# Altium integrated library Passive.IntLib: 1327 symbols (part 4 of 10)
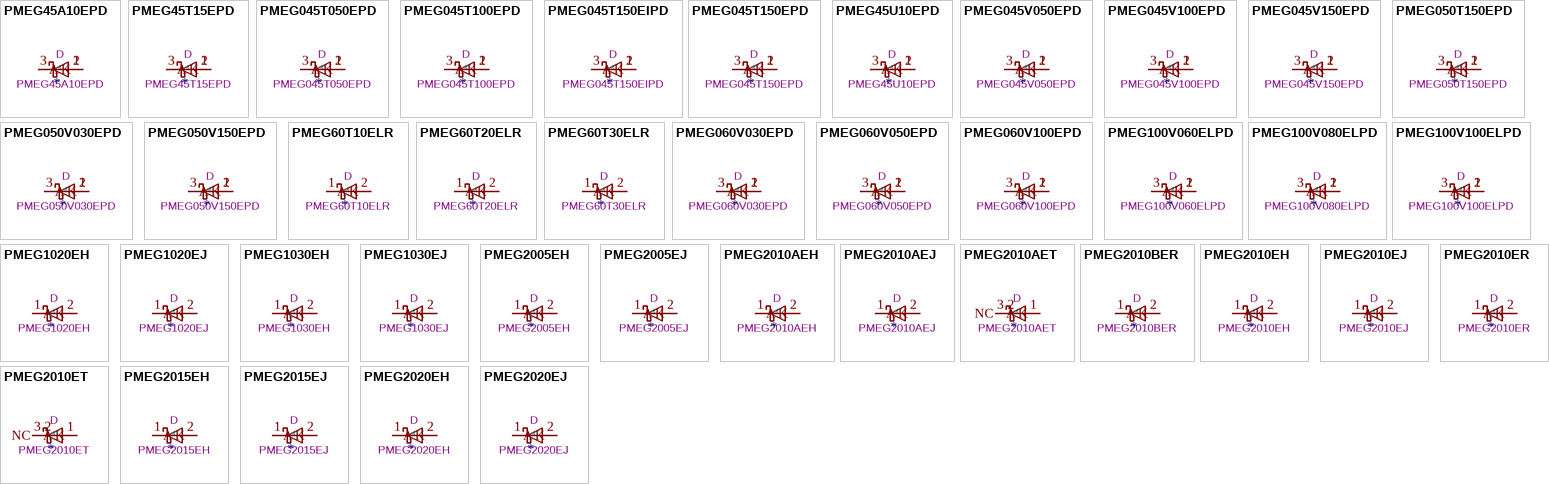
[diagram p44: symbols PMEG45A10EPD to PMEG2020EJ]

## PMEG100V100ELPD
designator *  value PMEG100V100ELPD  Reference: D
100V, 10A low leakage current MEGA Schottky barrier rectifier, SOT-1289; ki_keywords: ir diode; ki_fp_filters: Nexperia*CFP15*SOT?1289*; Footprint: Package_TO_SOT_SMD:Nexperia_CFP15_SOT-1289; Datasheet: https://assets.nexperia.com/documents/data-sheet/PMEG100V100ELPD.pdf; Description_: 100V, 10A low leakage current MEGA Schottky barrier rectifier, SOT-1289
pins: 1 A, 2 A, 3 K

## PMEG1020EH
designator *  value PMEG1020EH  Reference: D
10V, 2A ultra low Vf MEGA Schottky barrier rectifier, SOD-123F; ki_keywords: forward voltage diode; ki_fp_filters: D*SOD?123F*; Footprint: Diode_SMD:D_SOD-123F; Datasheet: https://assets.nexperia.com/documents/data-sheet/PMEG1020EH_EJ.pdf; Description_: 10V, 2A ultra low Vf MEGA Schottky barrier rectifier, SOD-123F
pins: 1 K, 2 A

## PMEG1020EJ
designator *  value PMEG1020EJ  Reference: D
10V, 2A ultra low Vf MEGA Schottky barrier rectifier, SOD-323F; ki_keywords: forward voltage diode; ki_fp_filters: D*SOD?323F*; Footprint: Diode_SMD:D_SOD-323F; Datasheet: https://assets.nexperia.com/documents/data-sheet/PMEG1020EH_EJ.pdf; Description_: 10V, 2A ultra low Vf MEGA Schottky barrier rectifier, SOD-323F
pins: 1 K, 2 A

## PMEG1030EH
designator *  value PMEG1030EH  Reference: D
10V, 3A ultra low Vf MEGA Schottky barrier rectifier, SOD-123F; ki_keywords: forward voltage diode; ki_fp_filters: D*SOD?123F*; Footprint: Diode_SMD:D_SOD-123F; Datasheet: https://assets.nexperia.com/documents/data-sheet/PMEG1030EH_EJ.pdf; Description_: 10V, 3A ultra low Vf MEGA Schottky barrier rectifier, SOD-123F
pins: 1 K, 2 A

## PMEG1030EJ
designator *  value PMEG1030EJ  Reference: D
10V, 3A ultra low Vf MEGA Schottky barrier rectifier, SOD-323F; ki_keywords: forward voltage diode; ki_fp_filters: D*SOD?323F*; Footprint: Diode_SMD:D_SOD-323F; Datasheet: https://assets.nexperia.com/documents/data-sheet/PMEG1030EH_EJ.pdf; Description_: 10V, 3A ultra low Vf MEGA Schottky barrier rectifier, SOD-323F
pins: 1 K, 2 A

## PMEG2005EH
designator *  value PMEG2005EH  Reference: D
20V, 500mA very low Vf MEGA Schottky barrier rectifier, SOD-123F; ki_keywords: forward voltage diode; ki_fp_filters: D*SOD?123F*; Footprint: Diode_SMD:D_SOD-123F; Datasheet: https://assets.nexperia.com/documents/data-sheet/PMEGXX05EH_EJ_SER.pdf; Description_: 20V, 500mA very low Vf MEGA Schottky barrier rectifier, SOD-123F
pins: 1 K, 2 A

## PMEG2005EJ
designator *  value PMEG2005EJ  Reference: D
20V, 500mA very low Vf MEGA Schottky barrier rectifier, SOD-323F; ki_keywords: forward voltage diode; ki_fp_filters: D*SOD?323F*; Footprint: Diode_SMD:D_SOD-323F; Datasheet: https://assets.nexperia.com/documents/data-sheet/PMEGXX05EH_EJ_SER.pdf; Description_: 20V, 500mA very low Vf MEGA Schottky barrier rectifier, SOD-323F
pins: 1 K, 2 A

## PMEG2010AEH
designator *  value PMEG2010AEH  Reference: D
20V, 1A very low Vf MEGA Schottky barrier rectifier, SOD-123F; ki_keywords: forward voltage diode; ki_fp_filters: D*SOD?123F*; Footprint: Diode_SMD:D_SOD-123F; Datasheet: https://assets.nexperia.com/documents/data-sheet/PMEG2010AEH_PMEG2010AET.pdf; Description_: 20V, 1A very low Vf MEGA Schottky barrier rectifier, SOD-123F
pins: 1 K, 2 A

## PMEG2010AEJ
designator *  value PMEG2010AEJ  Reference: D
20V, 1A very low Vf MEGA Schottky barrier rectifier, SOD-323F; ki_keywords: forward voltage diode; ki_fp_filters: D*SOD?323F*; Footprint: Diode_SMD:D_SOD-323F; Datasheet: https://assets.nexperia.com/documents/data-sheet/PMEG2010AEJ.pdf; Description_: 20V, 1A very low Vf MEGA Schottky barrier rectifier, SOD-323F
pins: 1 K, 2 A

## PMEG2010AET
designator *  value PMEG2010AET  Reference: D
20V, 1A very low Vf MEGA Schottky barrier rectifier, SOT-23; ki_keywords: forward voltage diode; ki_fp_filters: SOT?23*; Footprint: Package_TO_SOT_SMD:SOT-23; Datasheet: https://assets.nexperia.com/documents/data-sheet/PMEG2010AEH_PMEG2010AET.pdf; Description_: 20V, 1A very low Vf MEGA Schottky barrier rectifier, SOT-23
pins: 1 A, 2 NC, 3 K

## PMEG2010BER
designator *  value PMEG2010BER  Reference: D
20V, 1A low Vf MEGA Schottky barrier rectifier, SOD-123W; ki_keywords: forward voltage diode; ki_fp_filters: Nexperia*CFP3*SOD?123W*; Footprint: Diode_SMD:Nexperia_CFP3_SOD-123W; Datasheet: https://assets.nexperia.com/documents/data-sheet/PMEG2010BER.pdf; Description_: 20V, 1A low Vf MEGA Schottky barrier rectifier, SOD-123W
pins: 1 K, 2 A

## PMEG2010EH
designator *  value PMEG2010EH  Reference: D
20V, 1A very low Vf MEGA Schottky barrier rectifier, SOD-123F; ki_keywords: forward voltage diode; ki_fp_filters: D*SOD?123F*; Footprint: Diode_SMD:D_SOD-123F; Datasheet: https://assets.nexperia.com/documents/data-sheet/PMEG2010EH_EJ_ET.pdf; Description_: 20V, 1A very low Vf MEGA Schottky barrier rectifier, SOD-123F
pins: 1 K, 2 A

## PMEG2010EJ
designator *  value PMEG2010EJ  Reference: D
20V, 1A very low Vf MEGA Schottky barrier rectifier, SOD-323F; ki_keywords: forward voltage diode; ki_fp_filters: D*SOD?323F*; Footprint: Diode_SMD:D_SOD-323F; Datasheet: https://assets.nexperia.com/documents/data-sheet/PMEG2010EH_EJ_ET.pdf; Description_: 20V, 1A very low Vf MEGA Schottky barrier rectifier, SOD-323F
pins: 1 K, 2 A

## PMEG2010ER
designator *  value PMEG2010ER  Reference: D
20V, 1A low Vf MEGA Schottky barrier rectifier, SOD-123W; ki_keywords: forward voltage diode; ki_fp_filters: Nexperia*CFP3*SOD?123W*; Footprint: Diode_SMD:Nexperia_CFP3_SOD-123W; Datasheet: https://assets.nexperia.com/documents/data-sheet/PMEG2010ER.pdf; Description_: 20V, 1A low Vf MEGA Schottky barrier rectifier, SOD-123W
pins: 1 K, 2 A

## PMEG2010ET
designator *  value PMEG2010ET  Reference: D
20V, 1A very low Vf MEGA Schottky barrier rectifier, SOT-23; ki_keywords: forward voltage diode; ki_fp_filters: SOT?23*; Footprint: Package_TO_SOT_SMD:SOT-23; Datasheet: https://assets.nexperia.com/documents/data-sheet/PMEG2010EH_EJ_ET.pdf; Description_: 20V, 1A very low Vf MEGA Schottky barrier rectifier, SOT-23
pins: 1 A, 2 NC, 3 K

## PMEG2015EH
designator *  value PMEG2015EH  Reference: D
20V, 1.5A very low Vf MEGA Schottky barrier rectifier, SOD-123F; ki_keywords: forward voltage diode; ki_fp_filters: D*SOD?123F*; Footprint: Diode_SMD:D_SOD-123F; Datasheet: https://assets.nexperia.com/documents/data-sheet/PMEG2015EH_EJ.pdf; Description_: 20V, 1.5A very low Vf MEGA Schottky barrier rectifier, SOD-123F
pins: 1 K, 2 A

## PMEG2015EJ
designator *  value PMEG2015EJ  Reference: D
20V, 1.5A very low Vf MEGA Schottky barrier rectifier, SOD-323F; ki_keywords: forward voltage diode; ki_fp_filters: D*SOD?323F*; Footprint: Diode_SMD:D_SOD-323F; Datasheet: https://assets.nexperia.com/documents/data-sheet/PMEG2015EH_EJ.pdf; Description_: 20V, 1.5A very low Vf MEGA Schottky barrier rectifier, SOD-323F
pins: 1 K, 2 A

## PMEG2020EH
designator *  value PMEG2020EH  Reference: D
20V, 2A very low Vf MEGA Schottky barrier rectifier, SOD-123F; ki_keywords: forward voltage diode; ki_fp_filters: D*SOD?123F*; Footprint: Diode_SMD:D_SOD-123F; Datasheet: https://assets.nexperia.com/documents/data-sheet/PMEG2020EH_EJ.pdf; Description_: 20V, 2A very low Vf MEGA Schottky barrier rectifier, SOD-123F
pins: 1 K, 2 A

## PMEG2020EJ
designator *  value PMEG2020EJ  Reference: D
20V, 2A very low Vf MEGA Schottky barrier rectifier, SOD-323F; ki_keywords: forward voltage diode; ki_fp_filters: D*SOD?323F*; Footprint: Diode_SMD:D_SOD-323F; Datasheet: https://assets.nexperia.com/documents/data-sheet/PMEG2020EH_EJ.pdf; Description_: 20V, 2A very low Vf MEGA Schottky barrier rectifier, SOD-323F
pins: 1 K, 2 A

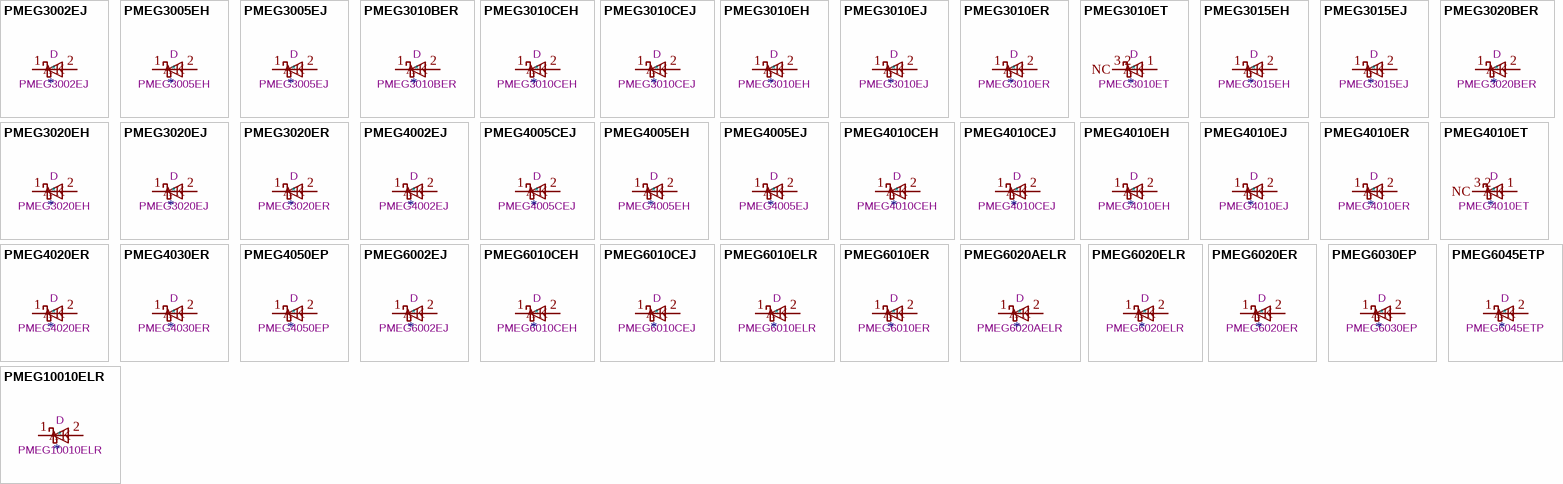
[diagram p12: symbols PMEG3002EJ to PMEG10010ELR]

## PMEG3002EJ
designator *  value PMEG3002EJ  Reference: D
30V, 200mA low Vf MEGA Schottky barrier rectifier, SOD-323F; ki_keywords: forward voltage diode; ki_fp_filters: D*SOD?323F*; Footprint: Diode_SMD:D_SOD-323F; Datasheet: https://assets.nexperia.com/documents/data-sheet/PMEG3002EJ.pdf; Description_: 30V, 200mA low Vf MEGA Schottky barrier rectifier, SOD-323F
pins: 1 K, 2 A

## PMEG3005EH
designator *  value PMEG3005EH  Reference: D
30V, 500mA very low Vf MEGA Schottky barrier rectifier, SOD-123F; ki_keywords: forward voltage diode; ki_fp_filters: D*SOD?123F*; Footprint: Diode_SMD:D_SOD-123F; Datasheet: https://assets.nexperia.com/documents/data-sheet/PMEGXX05EH_EJ_SER.pdf; Description_: 30V, 500mA very low Vf MEGA Schottky barrier rectifier, SOD-123F
pins: 1 K, 2 A

## PMEG3005EJ
designator *  value PMEG3005EJ  Reference: D
30V, 500mA very low Vf MEGA Schottky barrier rectifier, SOD-323F; ki_keywords: forward voltage diode; ki_fp_filters: D*SOD?323F*; Footprint: Diode_SMD:D_SOD-323F; Datasheet: https://assets.nexperia.com/documents/data-sheet/PMEGXX05EH_EJ_SER.pdf; Description_: 30V, 500mA very low Vf MEGA Schottky barrier rectifier, SOD-323F
pins: 1 K, 2 A

## PMEG3010BER
designator *  value PMEG3010BER  Reference: D
30V, 1A low Vf MEGA Schottky barrier rectifier, SOD-123W; ki_keywords: forward voltage diode; ki_fp_filters: Nexperia*CFP3*SOD?123W*; Footprint: Diode_SMD:Nexperia_CFP3_SOD-123W; Datasheet: https://assets.nexperia.com/documents/data-sheet/PMEG3010BER.pdf; Description_: 30V, 1A low Vf MEGA Schottky barrier rectifier, SOD-123W
pins: 1 K, 2 A

## PMEG3010CEH
designator *  value PMEG3010CEH  Reference: D
30V, 1A very low Vf MEGA Schottky barrier rectifier, SOD-123F; ki_keywords: forward voltage diode; ki_fp_filters: D*SOD?123F*; Footprint: Diode_SMD:D_SOD-123F; Datasheet: https://assets.nexperia.com/documents/data-sheet/PMEG3010CEH_PMEG3010CEJ.pdf; Description_: 30V, 1A very low Vf MEGA Schottky barrier rectifier, SOD-123F
pins: 1 K, 2 A

## PMEG3010CEJ
designator *  value PMEG3010CEJ  Reference: D
30V, 1A very low Vf MEGA Schottky barrier rectifier, SOD-323F; ki_keywords: forward voltage diode; ki_fp_filters: D*SOD?323F*; Footprint: Diode_SMD:D_SOD-323F; Datasheet: https://assets.nexperia.com/documents/data-sheet/PMEG3010CEH_PMEG3010CEJ.pdf; Description_: 30V, 1A very low Vf MEGA Schottky barrier rectifier, SOD-323F
pins: 1 K, 2 A

## PMEG3010EH
designator *  value PMEG3010EH  Reference: D
30V, 1A very low Vf MEGA Schottky barrier rectifier, SOD-123F; ki_keywords: forward voltage diode; ki_fp_filters: D*SOD?123F*; Footprint: Diode_SMD:D_SOD-123F; Datasheet: https://assets.nexperia.com/documents/data-sheet/PMEG3010EH_EJ_ET.pdf; Description_: 30V, 1A very low Vf MEGA Schottky barrier rectifier, SOD-123F
pins: 1 K, 2 A

## PMEG3010EJ
designator *  value PMEG3010EJ  Reference: D
30V, 1A very low Vf MEGA Schottky barrier rectifier, SOD-323F; ki_keywords: forward voltage diode; ki_fp_filters: D*SOD?323F*; Footprint: Diode_SMD:D_SOD-323F; Datasheet: https://assets.nexperia.com/documents/data-sheet/PMEG3010EH_EJ_ET.pdf; Description_: 30V, 1A very low Vf MEGA Schottky barrier rectifier, SOD-323F
pins: 1 K, 2 A

## PMEG3010ER
designator *  value PMEG3010ER  Reference: D
30V, 1A low Vf MEGA Schottky barrier rectifier, SOD-123W; ki_keywords: forward voltage diode; ki_fp_filters: Nexperia*CFP3*SOD?123W*; Footprint: Diode_SMD:Nexperia_CFP3_SOD-123W; Datasheet: https://assets.nexperia.com/documents/data-sheet/PMEG3010ER.pdf; Description_: 30V, 1A low Vf MEGA Schottky barrier rectifier, SOD-123W
pins: 1 K, 2 A

## PMEG3010ET
designator *  value PMEG3010ET  Reference: D
30V, 1A very low Vf MEGA Schottky barrier rectifier, SOT-23; ki_keywords: forward voltage diode; ki_fp_filters: SOT?23*; Footprint: Package_TO_SOT_SMD:SOT-23; Datasheet: https://assets.nexperia.com/documents/data-sheet/PMEG3010EH_EJ_ET.pdf; Description_: 30V, 1A very low Vf MEGA Schottky barrier rectifier, SOT-23
pins: 1 A, 2 NC, 3 K

## PMEG3015EH
designator *  value PMEG3015EH  Reference: D
30V, 1.5A ultra low Vf MEGA Schottky barrier rectifier, SOD-123F; ki_keywords: forward voltage diode; ki_fp_filters: D*SOD?123F*; Footprint: Diode_SMD:D_SOD-123F; Datasheet: https://assets.nexperia.com/documents/data-sheet/PMEG3015EH_EJ.pdf; Description_: 30V, 1.5A ultra low Vf MEGA Schottky barrier rectifier, SOD-123F
pins: 1 K, 2 A

## PMEG3015EJ
designator *  value PMEG3015EJ  Reference: D
30V, 1.5A ultra low Vf MEGA Schottky barrier rectifier, SOD-323F; ki_keywords: forward voltage diode; ki_fp_filters: D*SOD?323F*; Footprint: Diode_SMD:D_SOD-323F; Datasheet: https://assets.nexperia.com/documents/data-sheet/PMEG3015EH_EJ.pdf; Description_: 30V, 1.5A ultra low Vf MEGA Schottky barrier rectifier, SOD-323F
pins: 1 K, 2 A

## PMEG3020BER
designator *  value PMEG3020BER  Reference: D
30V, 2A low Vf MEGA Schottky barrier rectifier, SOD-123W; ki_keywords: forward voltage diode; ki_fp_filters: Nexperia*CFP3*SOD?123W*; Footprint: Diode_SMD:Nexperia_CFP3_SOD-123W; Datasheet: https://assets.nexperia.com/documents/data-sheet/PMEG3020BER.pdf; Description_: 30V, 2A low Vf MEGA Schottky barrier rectifier, SOD-123W
pins: 1 K, 2 A

## PMEG3020EH
designator *  value PMEG3020EH  Reference: D
30V, 2A ultra low Vf MEGA Schottky barrier rectifier, SOD-123F; ki_keywords: forward voltage diode; ki_fp_filters: D*SOD?123F*; Footprint: Diode_SMD:D_SOD-123F; Datasheet: https://assets.nexperia.com/documents/data-sheet/PMEG3020EH_EJ.pdf; Description_: 30V, 2A ultra low Vf MEGA Schottky barrier rectifier, SOD-123F
pins: 1 K, 2 A

## PMEG3020EJ
designator *  value PMEG3020EJ  Reference: D
30V, 2A ultra low Vf MEGA Schottky barrier rectifier, SOD-323F; ki_keywords: forward voltage diode; ki_fp_filters: D*SOD?323F*; Footprint: Diode_SMD:D_SOD-323F; Datasheet: https://assets.nexperia.com/documents/data-sheet/PMEG3020EH_EJ.pdf; Description_: 30V, 2A ultra low Vf MEGA Schottky barrier rectifier, SOD-323F
pins: 1 K, 2 A

## PMEG3020ER
designator *  value PMEG3020ER  Reference: D
30V, 2A low Vf MEGA Schottky barrier rectifier, SOD-123W; ki_keywords: forward voltage diode; ki_fp_filters: Nexperia*CFP3*SOD?123W*; Footprint: Diode_SMD:Nexperia_CFP3_SOD-123W; Datasheet: https://assets.nexperia.com/documents/data-sheet/PMEG3020ER.pdf; Description_: 30V, 2A low Vf MEGA Schottky barrier rectifier, SOD-123W
pins: 1 K, 2 A

## PMEG4002EJ
designator *  value PMEG4002EJ  Reference: D
40V, 200mA low Vf MEGA Schottky barrier rectifier, SOD-323F; ki_keywords: forward voltage diode; ki_fp_filters: D*SOD?323F*; Footprint: Diode_SMD:D_SOD-323F; Datasheet: https://assets.nexperia.com/documents/data-sheet/PMEG4002EJ.pdf; Description_: 40V, 200mA low Vf MEGA Schottky barrier rectifier, SOD-323F
pins: 1 K, 2 A

## PMEG4005CEJ
designator *  value PMEG4005CEJ  Reference: D
40V, 500mA low Vf MEGA Schottky barrier rectifier, SOD-323F; ki_keywords: forward voltage diode; ki_fp_filters: D*SOD?323F*; Footprint: Diode_SMD:D_SOD-323F; Datasheet: https://assets.nexperia.com/documents/data-sheet/PMEG4005CEJ.pdf; Description_: 40V, 500mA low Vf MEGA Schottky barrier rectifier, SOD-323F
pins: 1 K, 2 A

## PMEG4005EH
designator *  value PMEG4005EH  Reference: D
40V, 500mA very low Vf MEGA Schottky barrier rectifier, SOD-123F; ki_keywords: forward voltage diode; ki_fp_filters: D*SOD?123F*; Footprint: Diode_SMD:D_SOD-123F; Datasheet: https://assets.nexperia.com/documents/data-sheet/PMEGXX05EH_EJ_SER.pdf; Description_: 40V, 500mA very low Vf MEGA Schottky barrier rectifier, SOD-123F
pins: 1 K, 2 A

## PMEG4005EJ
designator *  value PMEG4005EJ  Reference: D
40V, 500mA very low Vf MEGA Schottky barrier rectifier, SOD-323F; ki_keywords: forward voltage diode; ki_fp_filters: D*SOD?323F*; Footprint: Diode_SMD:D_SOD-323F; Datasheet: https://assets.nexperia.com/documents/data-sheet/PMEGXX05EH_EJ_SER.pdf; Description_: 40V, 500mA very low Vf MEGA Schottky barrier rectifier, SOD-323F
pins: 1 K, 2 A

## PMEG4010CEH
designator *  value PMEG4010CEH  Reference: D
40V, 1A very low Vf MEGA Schottky barrier rectifier, SOD-123F; ki_keywords: forward voltage diode; ki_fp_filters: D*SOD?123F*; Footprint: Diode_SMD:D_SOD-123F; Datasheet: https://assets.nexperia.com/documents/data-sheet/PMEG4010CEH_PMEG4010CEJ.pdf; Description_: 40V, 1A very low Vf MEGA Schottky barrier rectifier, SOD-123F
pins: 1 K, 2 A

## PMEG4010CEJ
designator *  value PMEG4010CEJ  Reference: D
40V, 1A very low Vf MEGA Schottky barrier rectifier, SOD-323F; ki_keywords: forward voltage diode; ki_fp_filters: D*SOD?323F*; Footprint: Diode_SMD:D_SOD-323F; Datasheet: https://assets.nexperia.com/documents/data-sheet/PMEG4010CEH_PMEG4010CEJ.pdf; Description_: 40V, 1A very low Vf MEGA Schottky barrier rectifier, SOD-323F
pins: 1 K, 2 A

## PMEG4010EH
designator *  value PMEG4010EH  Reference: D
40V, 1A very low Vf MEGA Schottky barrier rectifier, SOD-123F; ki_keywords: forward voltage diode; ki_fp_filters: D*SOD?123F*; Footprint: Diode_SMD:D_SOD-123F; Datasheet: https://assets.nexperia.com/documents/data-sheet/PMEG4010EH_EJ_ET.pdf; Description_: 40V, 1A very low Vf MEGA Schottky barrier rectifier, SOD-123F
pins: 1 K, 2 A

## PMEG4010EJ
designator *  value PMEG4010EJ  Reference: D
40V, 1A very low Vf MEGA Schottky barrier rectifier, SOD-323F; ki_keywords: forward voltage diode; ki_fp_filters: D*SOD?323F*; Footprint: Diode_SMD:D_SOD-323F; Datasheet: https://assets.nexperia.com/documents/data-sheet/PMEG4010EH_EJ_ET.pdf; Description_: 40V, 1A very low Vf MEGA Schottky barrier rectifier, SOD-323F
pins: 1 K, 2 A

## PMEG4010ER
designator *  value PMEG4010ER  Reference: D
40V, 1A low Vf MEGA Schottky barrier rectifier, SOD-123W; ki_keywords: forward voltage diode; ki_fp_filters: Nexperia*CFP3*SOD?123W*; Footprint: Diode_SMD:Nexperia_CFP3_SOD-123W; Datasheet: https://assets.nexperia.com/documents/data-sheet/PMEG4010ER.pdf; Description_: 40V, 1A low Vf MEGA Schottky barrier rectifier, SOD-123W
pins: 1 K, 2 A

## PMEG4010ET
designator *  value PMEG4010ET  Reference: D
40V, 1A very low Vf MEGA Schottky barrier rectifier, SOT-23; ki_keywords: forward voltage diode; ki_fp_filters: SOT?23*; Footprint: Package_TO_SOT_SMD:SOT-23; Datasheet: https://assets.nexperia.com/documents/data-sheet/PMEG4010EH_EJ_ET.pdf; Description_: 40V, 1A very low Vf MEGA Schottky barrier rectifier, SOT-23
pins: 1 A, 2 NC, 3 K

## PMEG4020ER
designator *  value PMEG4020ER  Reference: D
40V, 2A low Vf MEGA Schottky barrier rectifier, SOD-123W; ki_keywords: forward voltage diode; ki_fp_filters: Nexperia*CFP3*SOD?123W*; Footprint: Diode_SMD:Nexperia_CFP3_SOD-123W; Datasheet: https://assets.nexperia.com/documents/data-sheet/PMEG4020ER.pdf; Description_: 40V, 2A low Vf MEGA Schottky barrier rectifier, SOD-123W
pins: 1 K, 2 A

## PMEG4030ER
designator *  value PMEG4030ER  Reference: D
40V, 3A low Vf MEGA Schottky barrier rectifier, SOD-123W; ki_keywords: forward voltage diode; ki_fp_filters: Nexperia*CFP3*SOD?123W*; Footprint: Diode_SMD:Nexperia_CFP3_SOD-123W; Datasheet: https://assets.nexperia.com/documents/data-sheet/PMEG4030ER.pdf; Description_: 40V, 3A low Vf MEGA Schottky barrier rectifier, SOD-123W
pins: 1 K, 2 A

## PMEG4050EP
designator *  value PMEG4050EP  Reference: D
40V, 5A low Vf Schottky barrier rectifier, SOD-128; ki_keywords: forward voltage diode; ki_fp_filters: D*SOD?128*; Footprint: Diode_SMD:D_SOD-128; Datasheet: https://assets.nexperia.com/documents/data-sheet/PMEG4050EP.pdf; Description_: 40V, 5A low Vf Schottky barrier rectifier, SOD-128
pins: 1 K, 2 A

## PMEG6002EJ
designator *  value PMEG6002EJ  Reference: D
60V, 200mA very low Vf MEGA Schottky barrier rectifier, SOD-323F; ki_keywords: forward voltage diode; ki_fp_filters: D*SOD?323F*; Footprint: Diode_SMD:D_SOD-323F; Datasheet: https://assets.nexperia.com/documents/data-sheet/PMEG6002EJ.pdf; Description_: 60V, 200mA very low Vf MEGA Schottky barrier rectifier, SOD-323F
pins: 1 K, 2 A

## PMEG6010CEH
designator *  value PMEG6010CEH  Reference: D
60V, 1A very low Vf MEGA Schottky barrier rectifier, SOD-123F; ki_keywords: forward voltage diode; ki_fp_filters: D*SOD?123F*; Footprint: Diode_SMD:D_SOD-123F; Datasheet: https://assets.nexperia.com/documents/data-sheet/PMEG6010CEH_PMEG6010CEJ.pdf; Description_: 60V, 1A very low Vf MEGA Schottky barrier rectifier, SOD-123F
pins: 1 K, 2 A

## PMEG6010CEJ
designator *  value PMEG6010CEJ  Reference: D
60V, 1A very low Vf MEGA Schottky barrier rectifier, SOD-323F; ki_keywords: forward voltage diode; ki_fp_filters: D*SOD?323F*; Footprint: Diode_SMD:D_SOD-323F; Datasheet: https://assets.nexperia.com/documents/data-sheet/PMEG6010CEH_PMEG6010CEJ.pdf; Description_: 60V, 1A very low Vf MEGA Schottky barrier rectifier, SOD-323F
pins: 1 K, 2 A

## PMEG6010ELR
designator *  value PMEG6010ELR  Reference: D
60V, 1A low leakage current MEGA Schottky barrier rectifier, SOD-123W; ki_keywords: ir diode; ki_fp_filters: Nexperia*CFP3*SOD?123W*; Footprint: Diode_SMD:Nexperia_CFP3_SOD-123W; Datasheet: https://assets.nexperia.com/documents/data-sheet/PMEG6010ELR.pdf; Description_: 60V, 1A low leakage current MEGA Schottky barrier rectifier, SOD-123W
pins: 1 K, 2 A

## PMEG6010ER
designator *  value PMEG6010ER  Reference: D
60V, 1A low Vf MEGA Schottky barrier rectifier, SOD-123W; ki_keywords: forward voltage diode; ki_fp_filters: Nexperia*CFP3*SOD?123W*; Footprint: Diode_SMD:Nexperia_CFP3_SOD-123W; Datasheet: https://assets.nexperia.com/documents/data-sheet/PMEG6010ER.pdf; Description_: 60V, 1A low Vf MEGA Schottky barrier rectifier, SOD-123W
pins: 1 K, 2 A

## PMEG6020AELR
designator *  value PMEG6020AELR  Reference: D
60V, 2A low leakage current MEGA Schottky barrier rectifier, SOD-123W; ki_keywords: ir diode; ki_fp_filters: Nexperia*CFP3*SOD?123W*; Footprint: Diode_SMD:Nexperia_CFP3_SOD-123W; Datasheet: https://assets.nexperia.com/documents/data-sheet/PMEG6020AELR.pdf; Description_: 60V, 2A low leakage current MEGA Schottky barrier rectifier, SOD-123W
pins: 1 K, 2 A

## PMEG6020ELR
designator *  value PMEG6020ELR  Reference: D
60V, 2A low leakage current MEGA Schottky barrier rectifier, SOD-123W; ki_keywords: ir diode; ki_fp_filters: Nexperia*CFP3*SOD?123W*; Footprint: Diode_SMD:Nexperia_CFP3_SOD-123W; Datasheet: https://assets.nexperia.com/documents/data-sheet/PMEG6020ELR.pdf; Description_: 60V, 2A low leakage current MEGA Schottky barrier rectifier, SOD-123W
pins: 1 K, 2 A

## PMEG6020ER
designator *  value PMEG6020ER  Reference: D
60V, 2A low Vf MEGA Schottky barrier rectifier, SOD-123W; ki_keywords: forward voltage diode; ki_fp_filters: Nexperia*CFP3*SOD?123W*; Footprint: Diode_SMD:Nexperia_CFP3_SOD-123W; Datasheet: https://assets.nexperia.com/documents/data-sheet/PMEG6020ER.pdf; Description_: 60V, 2A low Vf MEGA Schottky barrier rectifier, SOD-123W
pins: 1 K, 2 A

## PMEG6030EP
designator *  value PMEG6030EP  Reference: D
60V, 3A low Vf MEGA Schottky barrier rectifier, SOD-128; ki_keywords: forward voltage diode; ki_fp_filters: D*SOD?128*; Footprint: Diode_SMD:D_SOD-128; Datasheet: https://assets.nexperia.com/documents/data-sheet/PMEG6030EP.pdf; Description_: 60V, 3A low Vf MEGA Schottky barrier rectifier, SOD-128
pins: 1 K, 2 A

## PMEG6045ETP
designator *  value PMEG6045ETP  Reference: D
60V, 4.5A High-Temperature Schottky barrier rectifier, SOD-128; ki_keywords: forward voltage diode; ki_fp_filters: D*SOD?128*; Footprint: Diode_SMD:D_SOD-128; Datasheet: https://assets.nexperia.com/documents/data-sheet/PMEG6045ETP.pdf; Description_: 60V, 4.5A High-Temperature Schottky barrier rectifier, SOD-128
pins: 1 K, 2 A

## PMEG10010ELR
designator *  value PMEG10010ELR  Reference: D
100V, 1A low leakage current MEGA Schottky barrier rectifier, SOD-123W; ki_keywords: ir diode; ki_fp_filters: Nexperia*CFP3*SOD?123W*; Footprint: Diode_SMD:Nexperia_CFP3_SOD-123W; Datasheet: https://assets.nexperia.com/documents/data-sheet/PMEG10010ELR.pdf; Description_: 100V, 1A low leakage current MEGA Schottky barrier rectifier, SOD-123W
pins: 1 K, 2 A

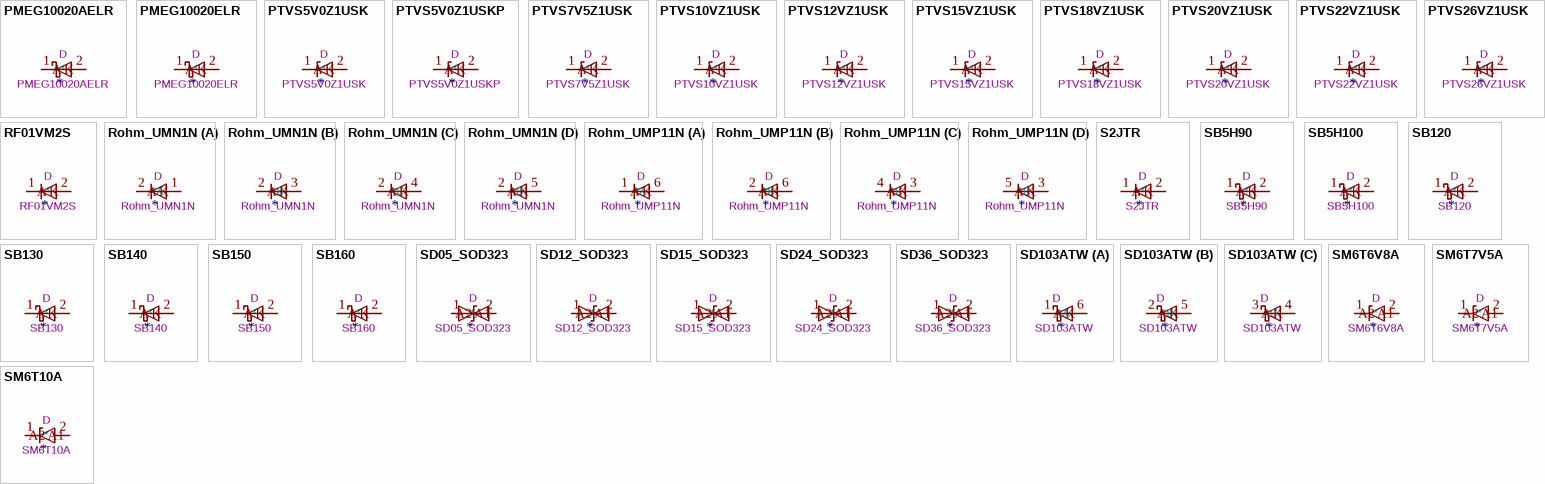
[diagram p13: symbols PMEG10020AELR to SM6T10A]

## PMEG10020AELR
designator *  value PMEG10020AELR  Reference: D
100V, 2A low leakage current MEGA Schottky barrier rectifier, SOD-123W; ki_keywords: ir diode; ki_fp_filters: Nexperia*CFP3*SOD?123W*; Footprint: Diode_SMD:Nexperia_CFP3_SOD-123W; Datasheet: https://assets.nexperia.com/documents/data-sheet/PMEG10020AELR.pdf; Description_: 100V, 2A low leakage current MEGA Schottky barrier rectifier, SOD-123W
pins: 1 K, 2 A

## PMEG10020ELR
designator *  value PMEG10020ELR  Reference: D
100V, 2A low leakage current MEGA Schottky barrier rectifier, SOD-123W; ki_keywords: ir diode; ki_fp_filters: Nexperia*CFP3*SOD?123W*; Footprint: Diode_SMD:Nexperia_CFP3_SOD-123W; Datasheet: https://assets.nexperia.com/documents/data-sheet/PMEG10020ELR.pdf; Description_: 100V, 2A low leakage current MEGA Schottky barrier rectifier, SOD-123W
pins: 1 K, 2 A

## PTVS5V0Z1USK
designator *  value PTVS5V0Z1USK  Reference: D
5V, 1200W TVS unidirectional diode, DSN1608-2; ki_keywords: TVS diode; ki_fp_filters: *DSN1608?2*; Footprint: Diode_SMD:Nexperia_DSN1608-2_1.6x0.8mm; Datasheet: https://assets.nexperia.com/documents/data-sheet/PTVS5V0Z1USK.pdf; Description_: 5V, 1200W TVS unidirectional diode, DSN1608-2
pins: 1 K, 2 A

## PTVS5V0Z1USKP
designator *  value PTVS5V0Z1USKP  Reference: D
5V, 2000W TVS unidirectional diode, DSN1608-2; ki_keywords: TVS diode; ki_fp_filters: *DSN1608?2*; Footprint: Diode_SMD:Nexperia_DSN1608-2_1.6x0.8mm; Datasheet: https://assets.nexperia.com/documents/data-sheet/PTVS5V0Z1USKP.pdf; Description_: 5V, 2000W TVS unidirectional diode, DSN1608-2
pins: 1 K, 2 A

## PTVS7V5Z1USK
designator *  value PTVS7V5Z1USK  Reference: D
7.5V, 2200W TVS unidirectional diode, DSN1608-2; ki_keywords: TVS diode; ki_fp_filters: *DSN1608?2*; Footprint: Diode_SMD:Nexperia_DSN1608-2_1.6x0.8mm; Datasheet: https://assets.nexperia.com/documents/data-sheet/PTVS7V5Z1USK.pdf; Description_: 7.5V, 2200W TVS unidirectional diode, DSN1608-2
pins: 1 K, 2 A

## PTVS10VZ1USK
designator *  value PTVS10VZ1USK  Reference: D
10V, 2000W TVS unidirectional diode, DSN1608-2; ki_keywords: TVS diode; ki_fp_filters: *DSN1608?2*; Footprint: Diode_SMD:Nexperia_DSN1608-2_1.6x0.8mm; Datasheet: https://assets.nexperia.com/documents/data-sheet/PTVS10VZ1USK.pdf; Description_: 10V, 2000W TVS unidirectional diode, DSN1608-2
pins: 1 K, 2 A

## PTVS12VZ1USK
designator *  value PTVS12VZ1USK  Reference: D
12V, 1900W TVS unidirectional diode, DSN1608-2; ki_keywords: TVS diode; ki_fp_filters: *DSN1608?2*; Footprint: Diode_SMD:Nexperia_DSN1608-2_1.6x0.8mm; Datasheet: https://assets.nexperia.com/documents/data-sheet/PTVS12VZ1USK.pdf; Description_: 12V, 1900W TVS unidirectional diode, DSN1608-2
pins: 1 K, 2 A

## PTVS15VZ1USK
designator *  value PTVS15VZ1USK  Reference: D
15V, 1900W TVS unidirectional diode, DSN1608-2; ki_keywords: TVS diode; ki_fp_filters: *DSN1608?2*; Footprint: Diode_SMD:Nexperia_DSN1608-2_1.6x0.8mm; Datasheet: https://assets.nexperia.com/documents/data-sheet/PTVS15VZ1USK.pdf; Description_: 15V, 1900W TVS unidirectional diode, DSN1608-2
pins: 1 K, 2 A

## PTVS18VZ1USK
designator *  value PTVS18VZ1USK  Reference: D
18V, 1800W TVS unidirectional diode, DSN1608-2; ki_keywords: TVS diode; ki_fp_filters: *DSN1608?2*; Footprint: Diode_SMD:Nexperia_DSN1608-2_1.6x0.8mm; Datasheet: https://assets.nexperia.com/documents/data-sheet/PTVS18VZ1USK.pdf; Description_: 18V, 1800W TVS unidirectional diode, DSN1608-2
pins: 1 K, 2 A

## PTVS20VZ1USK
designator *  value PTVS20VZ1USK  Reference: D
20V, 2000W TVS unidirectional diode, DSN1608-2; ki_keywords: TVS diode; ki_fp_filters: *DSN1608?2*; Footprint: Diode_SMD:Nexperia_DSN1608-2_1.6x0.8mm; Datasheet: https://assets.nexperia.com/documents/data-sheet/PTVS20VZ1USK.pdf; Description_: 20V, 2000W TVS unidirectional diode, DSN1608-2
pins: 1 K, 2 A

## PTVS22VZ1USK
designator *  value PTVS22VZ1USK  Reference: D
22V, 1900W TVS unidirectional diode, DSN1608-2; ki_keywords: TVS diode; ki_fp_filters: *DSN1608?2*; Footprint: Diode_SMD:Nexperia_DSN1608-2_1.6x0.8mm; Datasheet: https://assets.nexperia.com/documents/data-sheet/PTVS22VZ1USK.pdf; Description_: 22V, 1900W TVS unidirectional diode, DSN1608-2
pins: 1 K, 2 A

## PTVS26VZ1USK
designator *  value PTVS26VZ1USK  Reference: D
26V, 1850W TVS unidirectional diode, DSN1608-2; ki_keywords: TVS diode; ki_fp_filters: *DSN1608?2*; Footprint: Diode_SMD:Nexperia_DSN1608-2_1.6x0.8mm; Datasheet: https://assets.nexperia.com/documents/data-sheet/PTVS26VZ1USK.pdf; Description_: 26V, 1850W TVS unidirectional diode, DSN1608-2
pins: 1 K, 2 A

## RF01VM2S
designator *  value RF01VM2S  Reference: D
250 V, 100 mA, Super Fast Recovery Diode, SOD-323; Sim.Pins: 1=K 2=A; ki_fp_filters: D*SOD?323*; Footprint: Diode_SMD:D_SOD-323; Datasheet: https://fscdn.rohm.com/en/products/databook/datasheet/discrete/diode/fast_recovery/rf01vm2s.pdf; Description_: 250 V, 100 mA, Super Fast Recovery Diode, SOD-323; Sim.Device: D; ki_keywords: diode
pins: 1 K, 2 A

## Rohm_UMN1N
designator *  value Rohm_UMN1N  Reference: D
High-speed switching diodes 2 pair Com K; ki_keywords: diode; ki_fp_filters: SOT?353*; Footprint: Package_TO_SOT_SMD:SOT-353_SC-70-5; Datasheet: https://fscdn.rohm.com/en/products/databook/datasheet/discrete/diode/switching/umn1ntr-e.pdf; Description_: High-speed switching diodes 2 pair Com K
part A pins: 1 A, 2 K
part B pins: 2 K, 3 A
part C pins: 2 K, 4 A
part D pins: 2 K, 5 A

## Rohm_UMP11N
designator *  value Rohm_UMP11N  Reference: D
High-speed switching diodes 2 pair Com A; ki_keywords: diode; ki_fp_filters: SOT?363*; Footprint: Package_TO_SOT_SMD:SOT-363_SC-70-6; Datasheet: https://fscdn.rohm.com/en/products/databook/datasheet/discrete/diode/switching/ump11ntn-e.pdf; Description_: High-speed switching diodes 2 pair Com A
part A pins: 1 K, 6 A
part B pins: 2 K, 6 A
part C pins: 3 A, 4 K
part D pins: 3 A, 5 K

## S2JTR
designator *  value S2JTR  Reference: D
600V 2A General Purpose Rectifier Diode, SMB; Sim.Pins: 1=K 2=A; ki_fp_filters: *D?SMB*; Footprint: Diode_SMD:D_SMB; Datasheet: http://www.smc-diodes.com/propdf/S2A-S2M%20N0562%20REV.A.pdf; Description_: 600V 2A General Purpose Rectifier Diode, SMB; Sim.Device: D; ki_keywords: diode
pins: 1 K, 2 A

## SB5H90
designator *  value SB5H90  Reference: D
90V 5A Schottky Barrier Rectifier Diode, DO-201AD; ki_keywords: diode Schottky; ki_fp_filters: D*DO?201AD*; Footprint: Diode_THT:D_DO-201AD_P15.24mm_Horizontal; Datasheet: https://www.vishay.com/docs/88722/sb5h90.pdf; Description_: 90V 5A Schottky Barrier Rectifier Diode, DO-201AD
pins: 1 K, 2 A

## SB5H100
designator *  value SB5H100  Reference: D
100V 5A Schottky Barrier Rectifier Diode, DO-201AD; ki_keywords: diode Schottky; ki_fp_filters: D*DO?201AD*; Footprint: Diode_THT:D_DO-201AD_P15.24mm_Horizontal; Datasheet: https://www.vishay.com/docs/88722/sb5h90.pdf; Description_: 100V 5A Schottky Barrier Rectifier Diode, DO-201AD
pins: 1 K, 2 A

## SB120
designator *  value SB120  Reference: D
20V 1A Schottky Barrier Rectifier Diode, DO-41; ki_keywords: diode Schottky; ki_fp_filters: D*DO?41*; Footprint: Diode_THT:D_DO-41_SOD81_P10.16mm_Horizontal; Datasheet: http://www.diodes.com/_files/datasheets/ds23022.pdf; Description_: 20V 1A Schottky Barrier Rectifier Diode, DO-41
pins: 1 K, 2 A

## SB130
designator *  value SB130  Reference: D
30V 1A Schottky Barrier Rectifier Diode, DO-41; ki_keywords: diode Schottky; ki_fp_filters: D*DO?41*; Footprint: Diode_THT:D_DO-41_SOD81_P10.16mm_Horizontal; Datasheet: http://www.diodes.com/_files/datasheets/ds23022.pdf; Description_: 30V 1A Schottky Barrier Rectifier Diode, DO-41
pins: 1 K, 2 A

## SB140
designator *  value SB140  Reference: D
40V 1A Schottky Barrier Rectifier Diode, DO-41; ki_keywords: diode Schottky; ki_fp_filters: D*DO?41*; Footprint: Diode_THT:D_DO-41_SOD81_P10.16mm_Horizontal; Datasheet: http://www.diodes.com/_files/datasheets/ds23022.pdf; Description_: 40V 1A Schottky Barrier Rectifier Diode, DO-41
pins: 1 K, 2 A

## SB150
designator *  value SB150  Reference: D
50V 1A Schottky Barrier Rectifier Diode, DO-41; ki_keywords: diode Schottky; ki_fp_filters: D*DO?41*; Footprint: Diode_THT:D_DO-41_SOD81_P10.16mm_Horizontal; Datasheet: http://www.diodes.com/_files/datasheets/ds23022.pdf; Description_: 50V 1A Schottky Barrier Rectifier Diode, DO-41
pins: 1 K, 2 A

## SB160
designator *  value SB160  Reference: D
60V 1A Schottky Barrier Rectifier Diode, DO-41; ki_keywords: diode Schottky; ki_fp_filters: D*DO?41*; Footprint: Diode_THT:D_DO-41_SOD81_P10.16mm_Horizontal; Datasheet: http://www.diodes.com/_files/datasheets/ds23022.pdf; Description_: 60V 1A Schottky Barrier Rectifier Diode, DO-41
pins: 1 K, 2 A

## SD05_SOD323
designator *  value SD05_SOD323  Reference: D
5V, 450W Discrete Bidirectional TVS Diode, SOD-323; ki_keywords: transient voltage suppressor thyrector transil; ki_fp_filters: D?SOD?323*; Footprint: Diode_SMD:D_SOD-323; Datasheet: https://www.littelfuse.com/~/media/electronics/datasheets/tvs_diode_arrays/littelfuse_tvs_diode_array_sd_c_datasheet.pdf.pdf; Description_: 5V, 450W Discrete Bidirectional TVS Diode, SOD-323
pins: 1 A1, 2 A2

## SD12_SOD323
designator *  value SD12_SOD323  Reference: D
12V, 450W Discrete Bidirectional TVS Diode, SOD-323; ki_keywords: transient voltage suppressor thyrector transil; ki_fp_filters: D?SOD?323*; Footprint: Diode_SMD:D_SOD-323; Datasheet: https://www.littelfuse.com/~/media/electronics/datasheets/tvs_diode_arrays/littelfuse_tvs_diode_array_sd_c_datasheet.pdf.pdf; Description_: 12V, 450W Discrete Bidirectional TVS Diode, SOD-323
pins: 1 A1, 2 A2

## SD15_SOD323
designator *  value SD15_SOD323  Reference: D
15V, 450W Discrete Bidirectional TVS Diode, SOD-323; ki_keywords: transient voltage suppressor thyrector transil; ki_fp_filters: D?SOD?323*; Footprint: Diode_SMD:D_SOD-323; Datasheet: https://www.littelfuse.com/~/media/electronics/datasheets/tvs_diode_arrays/littelfuse_tvs_diode_array_sd_c_datasheet.pdf.pdf; Description_: 15V, 450W Discrete Bidirectional TVS Diode, SOD-323
pins: 1 A1, 2 A2

## SD24_SOD323
designator *  value SD24_SOD323  Reference: D
24V, 450W Discrete Bidirectional TVS Diode, SOD-323; ki_keywords: transient voltage suppressor thyrector transil; ki_fp_filters: D?SOD?323*; Footprint: Diode_SMD:D_SOD-323; Datasheet: https://www.littelfuse.com/~/media/electronics/datasheets/tvs_diode_arrays/littelfuse_tvs_diode_array_sd_c_datasheet.pdf.pdf; Description_: 24V, 450W Discrete Bidirectional TVS Diode, SOD-323
pins: 1 A1, 2 A2

## SD36_SOD323
designator *  value SD36_SOD323  Reference: D
36V, 450W Discrete Bidirectional TVS Diode, SOD-323; ki_keywords: transient voltage suppressor thyrector transil; ki_fp_filters: D?SOD?323*; Footprint: Diode_SMD:D_SOD-323; Datasheet: https://www.littelfuse.com/~/media/electronics/datasheets/tvs_diode_arrays/littelfuse_tvs_diode_array_sd_c_datasheet.pdf.pdf; Description_: 36V, 450W Discrete Bidirectional TVS Diode, SOD-323
pins: 1 A1, 2 A2

## SD103ATW
designator *  value SD103ATW  Reference: D
Schottky Barrier Diode Array, SOT-363; ki_fp_filters: SOT?363*; Footprint: Package_TO_SOT_SMD:SOT-363_SC-70-6; Datasheet: https://www.diodes.com/assets/Datasheets/ds30374.pdf; Description_: Schottky Barrier Diode Array, SOT-363; ki_keywords: schottky barrier diode array
part A pins: 1 K, 6 A
part B pins: 2 K, 5 A
part C pins: 3 K, 4 A

## SM6T6V8A
designator *  value SM6T6V8A  Reference: D
600W unidirectional Transil Transient Voltage Suppressor, 6.8Vrwm, DO-214AA; ki_keywords: diode TVS voltage suppressor; ki_fp_filters: D*SMB*; Footprint: Diode_SMD:D_SMB; Datasheet: https://www.st.com/resource/en/datasheet/sm6t.pdf; Description_: 600W unidirectional Transil Transient Voltage Suppressor, 6.8Vrwm, DO-214AA
pins: 1 A1, 2 A2

## SM6T7V5A
designator *  value SM6T7V5A  Reference: D
600W unidirectional Transil Transient Voltage Suppressor, 7.5Vrwm, DO-214AA; ki_keywords: diode TVS voltage suppressor; ki_fp_filters: D*SMB*; Footprint: Diode_SMD:D_SMB; Datasheet: https://www.st.com/resource/en/datasheet/sm6t.pdf; Description_: 600W unidirectional Transil Transient Voltage Suppressor, 7.5Vrwm, DO-214AA
pins: 1 A1, 2 A2

## SM6T10A
designator *  value SM6T10A  Reference: D
600W unidirectional Transil Transient Voltage Suppressor, 10Vrwm, DO-214AA; ki_keywords: diode TVS voltage suppressor; ki_fp_filters: D*SMB*; Footprint: Diode_SMD:D_SMB; Datasheet: https://www.st.com/resource/en/datasheet/sm6t.pdf; Description_: 600W unidirectional Transil Transient Voltage Suppressor, 10Vrwm, DO-214AA
pins: 1 A1, 2 A2

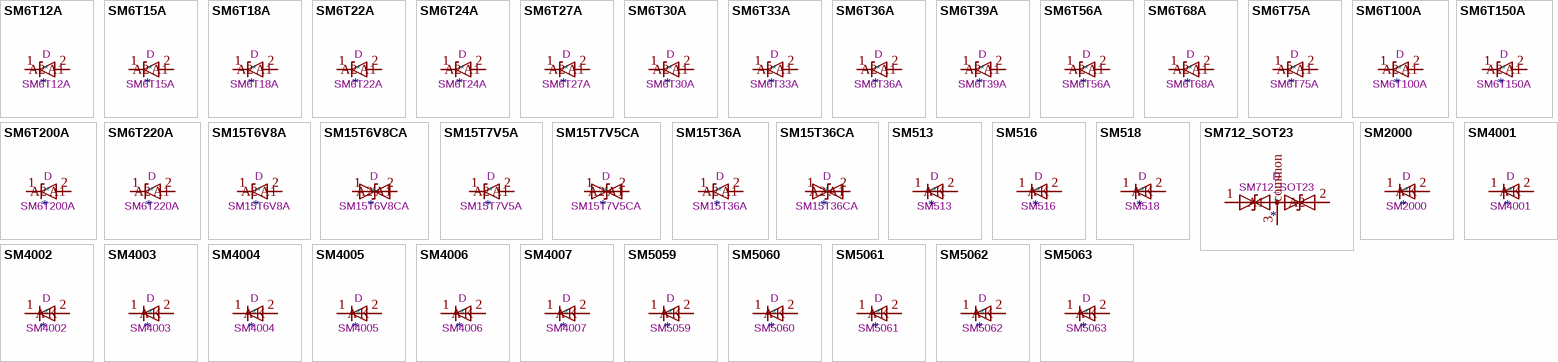
[diagram p14: symbols SM6T12A to SM5063]

## SM6T12A
designator *  value SM6T12A  Reference: D
600W unidirectional Transil Transient Voltage Suppressor, 12Vrwm, DO-214AA; ki_keywords: diode TVS voltage suppressor; ki_fp_filters: D*SMB*; Footprint: Diode_SMD:D_SMB; Datasheet: https://www.st.com/resource/en/datasheet/sm6t.pdf; Description_: 600W unidirectional Transil Transient Voltage Suppressor, 12Vrwm, DO-214AA
pins: 1 A1, 2 A2

## SM6T15A
designator *  value SM6T15A  Reference: D
600W unidirectional Transil Transient Voltage Suppressor, 15Vrwm, DO-214AA; ki_keywords: diode TVS voltage suppressor; ki_fp_filters: D*SMB*; Footprint: Diode_SMD:D_SMB; Datasheet: https://www.st.com/resource/en/datasheet/sm6t.pdf; Description_: 600W unidirectional Transil Transient Voltage Suppressor, 15Vrwm, DO-214AA
pins: 1 A1, 2 A2

## SM6T18A
designator *  value SM6T18A  Reference: D
600W unidirectional Transil Transient Voltage Suppressor, 18Vrwm, DO-214AA; ki_keywords: diode TVS voltage suppressor; ki_fp_filters: D*SMB*; Footprint: Diode_SMD:D_SMB; Datasheet: https://www.st.com/resource/en/datasheet/sm6t.pdf; Description_: 600W unidirectional Transil Transient Voltage Suppressor, 18Vrwm, DO-214AA
pins: 1 A1, 2 A2

## SM6T22A
designator *  value SM6T22A  Reference: D
600W unidirectional Transil Transient Voltage Suppressor, 22Vrwm, DO-214AA; ki_keywords: diode TVS voltage suppressor; ki_fp_filters: D*SMB*; Footprint: Diode_SMD:D_SMB; Datasheet: https://www.st.com/resource/en/datasheet/sm6t.pdf; Description_: 600W unidirectional Transil Transient Voltage Suppressor, 22Vrwm, DO-214AA
pins: 1 A1, 2 A2

## SM6T24A
designator *  value SM6T24A  Reference: D
600W unidirectional Transil Transient Voltage Suppressor, 24Vrwm, DO-214AA; ki_keywords: diode TVS voltage suppressor; ki_fp_filters: D*SMB*; Footprint: Diode_SMD:D_SMB; Datasheet: https://www.st.com/resource/en/datasheet/sm6t.pdf; Description_: 600W unidirectional Transil Transient Voltage Suppressor, 24Vrwm, DO-214AA
pins: 1 A1, 2 A2

## SM6T27A
designator *  value SM6T27A  Reference: D
600W unidirectional Transil Transient Voltage Suppressor, 27Vrwm, DO-214AA; ki_keywords: diode TVS voltage suppressor; ki_fp_filters: D*SMB*; Footprint: Diode_SMD:D_SMB; Datasheet: https://www.st.com/resource/en/datasheet/sm6t.pdf; Description_: 600W unidirectional Transil Transient Voltage Suppressor, 27Vrwm, DO-214AA
pins: 1 A1, 2 A2

## SM6T30A
designator *  value SM6T30A  Reference: D
600W unidirectional Transil Transient Voltage Suppressor, 30Vrwm, DO-214AA; ki_keywords: diode TVS voltage suppressor; ki_fp_filters: D*SMB*; Footprint: Diode_SMD:D_SMB; Datasheet: https://www.st.com/resource/en/datasheet/sm6t.pdf; Description_: 600W unidirectional Transil Transient Voltage Suppressor, 30Vrwm, DO-214AA
pins: 1 A1, 2 A2

## SM6T33A
designator *  value SM6T33A  Reference: D
600W unidirectional Transil Transient Voltage Suppressor, 33Vrwm, DO-214AA; ki_keywords: diode TVS voltage suppressor; ki_fp_filters: D*SMB*; Footprint: Diode_SMD:D_SMB; Datasheet: https://www.st.com/resource/en/datasheet/sm6t.pdf; Description_: 600W unidirectional Transil Transient Voltage Suppressor, 33Vrwm, DO-214AA
pins: 1 A1, 2 A2

## SM6T36A
designator *  value SM6T36A  Reference: D
600W unidirectional Transil Transient Voltage Suppressor, 36Vrwm, DO-214AA; ki_keywords: diode TVS voltage suppressor; ki_fp_filters: D*SMB*; Footprint: Diode_SMD:D_SMB; Datasheet: https://www.st.com/resource/en/datasheet/sm6t.pdf; Description_: 600W unidirectional Transil Transient Voltage Suppressor, 36Vrwm, DO-214AA
pins: 1 A1, 2 A2

## SM6T39A
designator *  value SM6T39A  Reference: D
600W unidirectional Transil Transient Voltage Suppressor, 39Vrwm, DO-214AA; ki_keywords: diode TVS voltage suppressor; ki_fp_filters: D*SMB*; Footprint: Diode_SMD:D_SMB; Datasheet: https://www.st.com/resource/en/datasheet/sm6t.pdf; Description_: 600W unidirectional Transil Transient Voltage Suppressor, 39Vrwm, DO-214AA
pins: 1 A1, 2 A2

## SM6T56A
designator *  value SM6T56A  Reference: D
600W unidirectional Transil Transient Voltage Suppressor, 56Vrwm, DO-214AA; ki_keywords: diode TVS voltage suppressor; ki_fp_filters: D*SMB*; Footprint: Diode_SMD:D_SMB; Datasheet: https://www.st.com/resource/en/datasheet/sm6t.pdf; Description_: 600W unidirectional Transil Transient Voltage Suppressor, 56Vrwm, DO-214AA
pins: 1 A1, 2 A2

## SM6T68A
designator *  value SM6T68A  Reference: D
600W unidirectional Transil Transient Voltage Suppressor, 68Vrwm, DO-214AA; ki_keywords: diode TVS voltage suppressor; ki_fp_filters: D*SMB*; Footprint: Diode_SMD:D_SMB; Datasheet: https://www.st.com/resource/en/datasheet/sm6t.pdf; Description_: 600W unidirectional Transil Transient Voltage Suppressor, 68Vrwm, DO-214AA
pins: 1 A1, 2 A2

## SM6T75A
designator *  value SM6T75A  Reference: D
600W unidirectional Transil Transient Voltage Suppressor, 75Vrwm, DO-214AA; ki_keywords: diode TVS voltage suppressor; ki_fp_filters: D*SMB*; Footprint: Diode_SMD:D_SMB; Datasheet: https://www.st.com/resource/en/datasheet/sm6t.pdf; Description_: 600W unidirectional Transil Transient Voltage Suppressor, 75Vrwm, DO-214AA
pins: 1 A1, 2 A2

## SM6T100A
designator *  value SM6T100A  Reference: D
600W unidirectional Transil Transient Voltage Suppressor, 100Vrwm, DO-214AA; ki_keywords: diode TVS voltage suppressor; ki_fp_filters: D*SMB*; Footprint: Diode_SMD:D_SMB; Datasheet: https://www.st.com/resource/en/datasheet/sm6t.pdf; Description_: 600W unidirectional Transil Transient Voltage Suppressor, 100Vrwm, DO-214AA
pins: 1 A1, 2 A2

## SM6T150A
designator *  value SM6T150A  Reference: D
600W unidirectional Transil Transient Voltage Suppressor, 150Vrwm, DO-214AA; ki_keywords: diode TVS voltage suppressor; ki_fp_filters: D*SMB*; Footprint: Diode_SMD:D_SMB; Datasheet: https://www.st.com/resource/en/datasheet/sm6t.pdf; Description_: 600W unidirectional Transil Transient Voltage Suppressor, 150Vrwm, DO-214AA
pins: 1 A1, 2 A2

## SM6T200A
designator *  value SM6T200A  Reference: D
600W unidirectional Transil Transient Voltage Suppressor, 200Vrwm, DO-214AA; ki_keywords: diode TVS voltage suppressor; ki_fp_filters: D*SMB*; Footprint: Diode_SMD:D_SMB; Datasheet: https://www.st.com/resource/en/datasheet/sm6t.pdf; Description_: 600W unidirectional Transil Transient Voltage Suppressor, 200Vrwm, DO-214AA
pins: 1 A1, 2 A2

## SM6T220A
designator *  value SM6T220A  Reference: D
600W unidirectional Transil Transient Voltage Suppressor, 220Vrwm, DO-214AA; ki_keywords: diode TVS voltage suppressor; ki_fp_filters: D*SMB*; Footprint: Diode_SMD:D_SMB; Datasheet: https://www.st.com/resource/en/datasheet/sm6t.pdf; Description_: 600W unidirectional Transil Transient Voltage Suppressor, 220Vrwm, DO-214AA
pins: 1 A1, 2 A2

## SM15T6V8A
designator *  value SM15T6V8A  Reference: D
1500W (10/1000 μs) Unidirectional TVS Diode, VRM = 5.8V (IRM = 500 μA at 25°C), VBR = 6.45 ... 7.14V, 'MDE' marking, SMC; ki_keywords: ESD protection transient voltage-suppressor transil thyrector transorb; ki_fp_filters: *D*SMC*; Footprint: Diode_SMD:ST_D_SMC; Datasheet: https://www.st.com/resource/en/datasheet/sm15t36a.pdf; Description_: 1500W (10/1000 μs) Unidirectional TVS Diode, VRM = 5.8V (IRM = 500 μA at 25°C), VBR = 6.45 ... 7.14V, 'MDE' marking, SMC
pins: 1 A1, 2 A2

## SM15T6V8CA
designator *  value SM15T6V8CA  Reference: D
1500W (10/1000 μs) Bidirectional TVS Diode, VRM = 5.8V (IRM = 500 μA at 25°C), VBR = 6.45 ... 7.14V, 'BDE' marking, SMC; ki_keywords: ESD protection transient voltage-suppressor transil thyrector transorb; ki_fp_filters: *D*SMC*; Footprint: Diode_SMD:ST_D_SMC; Datasheet: https://www.st.com/resource/en/datasheet/sm15t36a.pdf; Description_: 1500W (10/1000 μs) Bidirectional TVS Diode, VRM = 5.8V (IRM = 500 μA at 25°C), VBR = 6.45 ... 7.14V, 'BDE' marking, SMC
pins: 1 A1, 2 A2

## SM15T7V5A
designator *  value SM15T7V5A  Reference: D
1500W (10/1000 μs) Unidirectional TVS Diode, VRM = 6.4V (IRM = 250 μA at 25°C), VBR = 7.13 ... 7.88V, 'MDG' marking, SMC; ki_keywords: ESD protection transient voltage-suppressor transil thyrector transorb; ki_fp_filters: *D*SMC*; Footprint: Diode_SMD:ST_D_SMC; Datasheet: https://www.st.com/resource/en/datasheet/sm15t36a.pdf; Description_: 1500W (10/1000 μs) Unidirectional TVS Diode, VRM = 6.4V (IRM = 250 μA at 25°C), VBR = 7.13 ... 7.88V, 'MDG' marking, SMC
pins: 1 A1, 2 A2

## SM15T7V5CA
designator *  value SM15T7V5CA  Reference: D
1500W (10/1000 μs) Bidirectional TVS Diode, VRM = 6.4V (IRM = 250 μA at 25°C), VBR = 7.13 ... 7.88V, 'BDG' marking, SMC; ki_keywords: ESD protection transient voltage-suppressor transil thyrector transorb; ki_fp_filters: *D*SMC*; Footprint: Diode_SMD:ST_D_SMC; Datasheet: https://www.st.com/resource/en/datasheet/sm15t36a.pdf; Description_: 1500W (10/1000 μs) Bidirectional TVS Diode, VRM = 6.4V (IRM = 250 μA at 25°C), VBR = 7.13 ... 7.88V, 'BDG' marking, SMC
pins: 1 A1, 2 A2

## SM15T36A
designator *  value SM15T36A  Reference: D
1500W (10/1000 μs) Unidirectional TVS Diode, VRM = 30.8V (IRM = 0.2 μA at 25°C), VBR = 34.2 ... 37.8V, 'MEV' marking, SMC; ki_keywords: ESD protection transient voltage-suppressor transil thyrector transorb; ki_fp_filters: *D*SMC*; Footprint: Diode_SMD:ST_D_SMC; Datasheet: https://www.st.com/resource/en/datasheet/sm15t36a.pdf; Description_: 1500W (10/1000 μs) Unidirectional TVS Diode, VRM = 30.8V (IRM = 0.2 μA at 25°C), VBR = 34.2 ... 37.8V, 'MEV' marking, SMC
pins: 1 A1, 2 A2

## SM15T36CA
designator *  value SM15T36CA  Reference: D
1500W (10/1000 μs) Bidirectional TVS Diode, VRM = 30.8V (IRM = 0.2 μA at 25°C), VBR = 34.2 ... 37.8V, 'BEV' marking, SMC; ki_keywords: ESD protection transient voltage-suppressor transil thyrector transorb; ki_fp_filters: *D*SMC*; Footprint: Diode_SMD:ST_D_SMC; Datasheet: https://www.st.com/resource/en/datasheet/sm15t36a.pdf; Description_: 1500W (10/1000 μs) Bidirectional TVS Diode, VRM = 30.8V (IRM = 0.2 μA at 25°C), VBR = 34.2 ... 37.8V, 'BEV' marking, SMC
pins: 1 A1, 2 A2

## SM513
designator *  value SM513  Reference: D
130V 1A General Purpose Rectifier Diode, MELF; Sim.Pins: 1=K 2=A; ki_fp_filters: D*MELF*; Footprint: Diode_SMD:D_MELF; Datasheet: http://cdn-reichelt.de/documents/datenblatt/A400/SMD1N400%23DIO.pdf; Description_: 130V 1A General Purpose Rectifier Diode, MELF; Sim.Device: D; ki_keywords: diode
pins: 1 K, 2 A

## SM516
designator *  value SM516  Reference: D
1600V 1A General Purpose Rectifier Diode, MELF; Sim.Pins: 1=K 2=A; ki_fp_filters: D*MELF*; Footprint: Diode_SMD:D_MELF; Datasheet: http://cdn-reichelt.de/documents/datenblatt/A400/SMD1N400%23DIO.pdf; Description_: 1600V 1A General Purpose Rectifier Diode, MELF; Sim.Device: D; ki_keywords: diode
pins: 1 K, 2 A

## SM518
designator *  value SM518  Reference: D
1800V 1A General Purpose Rectifier Diode, MELF; Sim.Pins: 1=K 2=A; ki_fp_filters: D*MELF*; Footprint: Diode_SMD:D_MELF; Datasheet: http://cdn-reichelt.de/documents/datenblatt/A400/SMD1N400%23DIO.pdf; Description_: 1800V 1A General Purpose Rectifier Diode, MELF; Sim.Device: D; ki_keywords: diode
pins: 1 K, 2 A

## SM712_SOT23
designator *  value SM712_SOT23  Reference: D
7V/12V, 600W Asymmetrical TVS Diode Array, SOT-23; ki_keywords: transient voltage suppressor thyrector transil; ki_fp_filters: SOT?23*; Footprint: Package_TO_SOT_SMD:SOT-23; Datasheet: https://www.littelfuse.com/~/media/electronics/datasheets/tvs_diode_arrays/littelfuse_tvs_diode_array_sm712_datasheet.pdf.pdf; Description_: 7V/12V, 600W Asymmetrical TVS Diode Array, SOT-23
pins: 1 A1, 2 A2, 3 common

## SM2000
designator *  value SM2000  Reference: D
2000V 1A General Purpose Rectifier Diode, MELF; Sim.Pins: 1=K 2=A; ki_fp_filters: D*MELF*; Footprint: Diode_SMD:D_MELF; Datasheet: http://cdn-reichelt.de/documents/datenblatt/A400/SMD1N400%23DIO.pdf; Description_: 2000V 1A General Purpose Rectifier Diode, MELF; Sim.Device: D; ki_keywords: diode
pins: 1 K, 2 A

## SM4001
designator *  value SM4001  Reference: D
50V 1A General Purpose Rectifier Diode, MELF; Sim.Pins: 1=K 2=A; ki_fp_filters: D*MELF*; Footprint: Diode_SMD:D_MELF; Datasheet: http://cdn-reichelt.de/documents/datenblatt/A400/SMD1N400%23DIO.pdf; Description_: 50V 1A General Purpose Rectifier Diode, MELF; Sim.Device: D; ki_keywords: diode
pins: 1 K, 2 A

## SM4002
designator *  value SM4002  Reference: D
100V 1A General Purpose Rectifier Diode, MELF; Sim.Pins: 1=K 2=A; ki_fp_filters: D*MELF*; Footprint: Diode_SMD:D_MELF; Datasheet: http://cdn-reichelt.de/documents/datenblatt/A400/SMD1N400%23DIO.pdf; Description_: 100V 1A General Purpose Rectifier Diode, MELF; Sim.Device: D; ki_keywords: diode
pins: 1 K, 2 A

## SM4003
designator *  value SM4003  Reference: D
200V 1A General Purpose Rectifier Diode, MELF; Sim.Pins: 1=K 2=A; ki_fp_filters: D*MELF*; Footprint: Diode_SMD:D_MELF; Datasheet: http://cdn-reichelt.de/documents/datenblatt/A400/SMD1N400%23DIO.pdf; Description_: 200V 1A General Purpose Rectifier Diode, MELF; Sim.Device: D; ki_keywords: diode
pins: 1 K, 2 A

## SM4004
designator *  value SM4004  Reference: D
400V 1A General Purpose Rectifier Diode, MELF; Sim.Pins: 1=K 2=A; ki_fp_filters: D*MELF*; Footprint: Diode_SMD:D_MELF; Datasheet: http://cdn-reichelt.de/documents/datenblatt/A400/SMD1N400%23DIO.pdf; Description_: 400V 1A General Purpose Rectifier Diode, MELF; Sim.Device: D; ki_keywords: diode
pins: 1 K, 2 A

## SM4005
designator *  value SM4005  Reference: D
600V 1A General Purpose Rectifier Diode, MELF; Sim.Pins: 1=K 2=A; ki_fp_filters: D*MELF*; Footprint: Diode_SMD:D_MELF; Datasheet: http://cdn-reichelt.de/documents/datenblatt/A400/SMD1N400%23DIO.pdf; Description_: 600V 1A General Purpose Rectifier Diode, MELF; Sim.Device: D; ki_keywords: diode
pins: 1 K, 2 A